# EAGLE library part TB6560 (library toshiba)
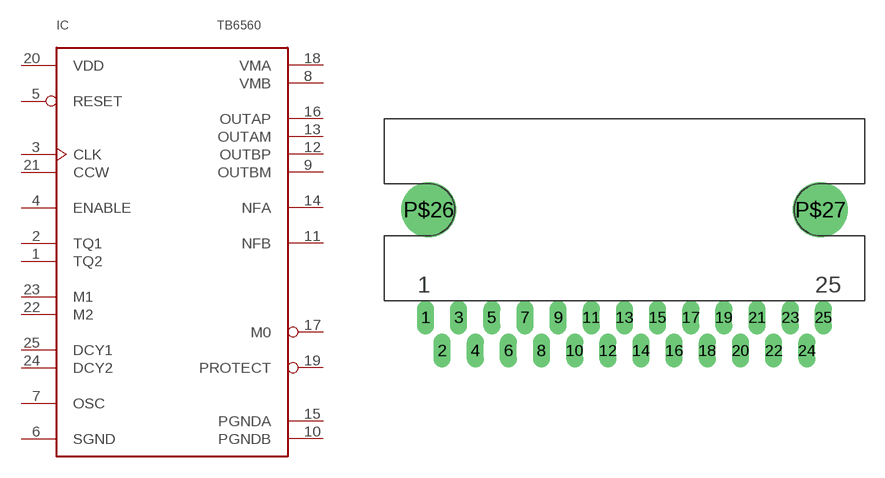
[diagram p2: symbol with the pads of HZIP25-P-1.27G; footprint HZIP25-P-1.27G]

Designator prefix IC

## TB6560  [HZIP25-P-1.27G]
1  TQ2  in
2  TQ1  in
3  CLK  in
4  ENABLE  in
5  RESET  in
6  SGND  sup
7  OSC  in
8  VMB  pwr
9  OUTBM
10  PGNDB  sup
11  NFB
12  OUTBP
13  OUTAM
14  NFA
15  PGNDA  sup
16  OUTAP
17  M0
18  VMA  pwr
19  PROTECT
20  VDD  in
21  CCW  in
22  M2  in
23  M1  in
24  DCY2  in
25  DCY1  in

## Footprint HZIP25-P-1.27G (pad centres in mm)
drill 0.8 long: 1 -15.24,-8.255; 2 -13.97,-10.795; 3 -12.7,-8.255; 4 -11.43,-10.795; 5 -10.16,-8.255; 6 -8.89,-10.795; 7 -7.62,-8.255; 8 -6.35,-10.795; 9 -5.08,-8.255; 10 -3.81,-10.795; 11 -2.54,-8.255; 12 -1.27,-10.795; 13 0,-8.255; 14 1.27,-10.795; 15 2.54,-8.255; 16 3.81,-10.795; 17 5.08,-8.255; 18 6.35,-10.795; 19 7.62,-8.255; 20 8.89,-10.795; 21 10.16,-8.255; 22 11.43,-10.795; 23 12.7,-8.255; 24 13.97,-10.795; 25 15.24,-8.255
drill 3.2 round: P$26 -15,0; P$27 15,0